# Altium schematic symbol library 4ConnectorRHS.SchLib: 1 symbol
Pins are listed as number, name and electrical type; pins without a type are passive.

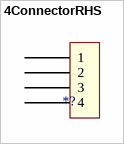
[diagram p0: symbol 4ConnectorRHS]

## 4ConnectorRHS
designator *, comment *?
footprint PCBComponent_1
pins: 1, 2, 3, 4